# EAGLE library part WE-TVS_SC70-6L_82402375 (library Eagle_WE-TVS (rev26a))
WE-TVS TVS Diode – Standard Series Characteristics Fast turn-on Low clamping voltage High ESD withstand voltage Uni- or bidirectional protection Small package Epoxy flame resistant UL94 V-0 Applications DC power supply USB Power Delivery (PD) Headsets and accessories PDAs Digital cameras MP3-Player Touch Panels Notebooks ESD, EFT and Surge Protection ESD protection in accordance with EN 61000-4-2 – 8 kV contact discharge – 15 kV air discharge <https://www.we-online.com/components/media/o106433v209%20Family_WE-TVS_Standard.jpg> Details see: www.we-online.com/en/components/products/WE-TVS <www.we-online.com/catalog/WE-TVS/?utm_source=eagle_model&utm_medium=description_link&utm_campaign=eisos_eagle> Updated by Ella Wu 2019-07-12 2019 (C) Würth Elektronik
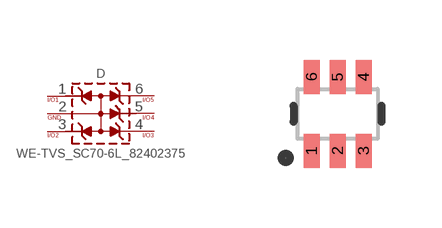
[diagram p3: symbol with the pads of WE-TVS_SC70-6L; footprint WE-TVS_SC70-6L]

Designator prefix D

## WE-TVS_SC70-6L_82402375 (CCH-TYP: 13pF; CHANNELS: 5; DATASHEET-URL: https://www.we-online.com/redexpert/spec/82402375?ae; HEIGHT: 1mm; IPEAK: 6A; LENGTH: 2mm; MOUNT: SMT; PART-NUMBER: 82402375; POLARITY: Unidirectional; SIZE: SC70-6L; VALUE: 82402375; VBR-MIN: 6V; VCH-CLAMP-ESD: 8V; VCH-MAX: 5V; VESD-CONTACT: 10kV; WIDTH: 2.2mm)  [WE-TVS_SC70-6L]
1  1  pas
2  GND  pas
3  2  pas
4  3  pas
5  4  pas
6  5  pas

## Footprint WE-TVS_SC70-6L (pad centres in mm)
WE-TVS TVS Diode Size: SC70-6L L X W X H = 2mm X2.1mm X 1mm
smd 0.4 x 0.85: 1 -0.65,-0.925; 2 0,-0.925; 3 0.65,-0.925; 4 0.65,0.925; 5 0,0.925; 6 -0.65,0.925